# Altium footprint library SecureBot.PcbLib: 71 footprints (part 5 of 5)
Each footprint in its own frame and in the unit in brackets; x right, y up, seen from the top. Pads: shape width x height; smd on the part's side, far side on the other; paste and mask are expansions set on the pad; w line width, h text height; cw(c..) or ccw(c..) is an arc to the next point about the centre after c.
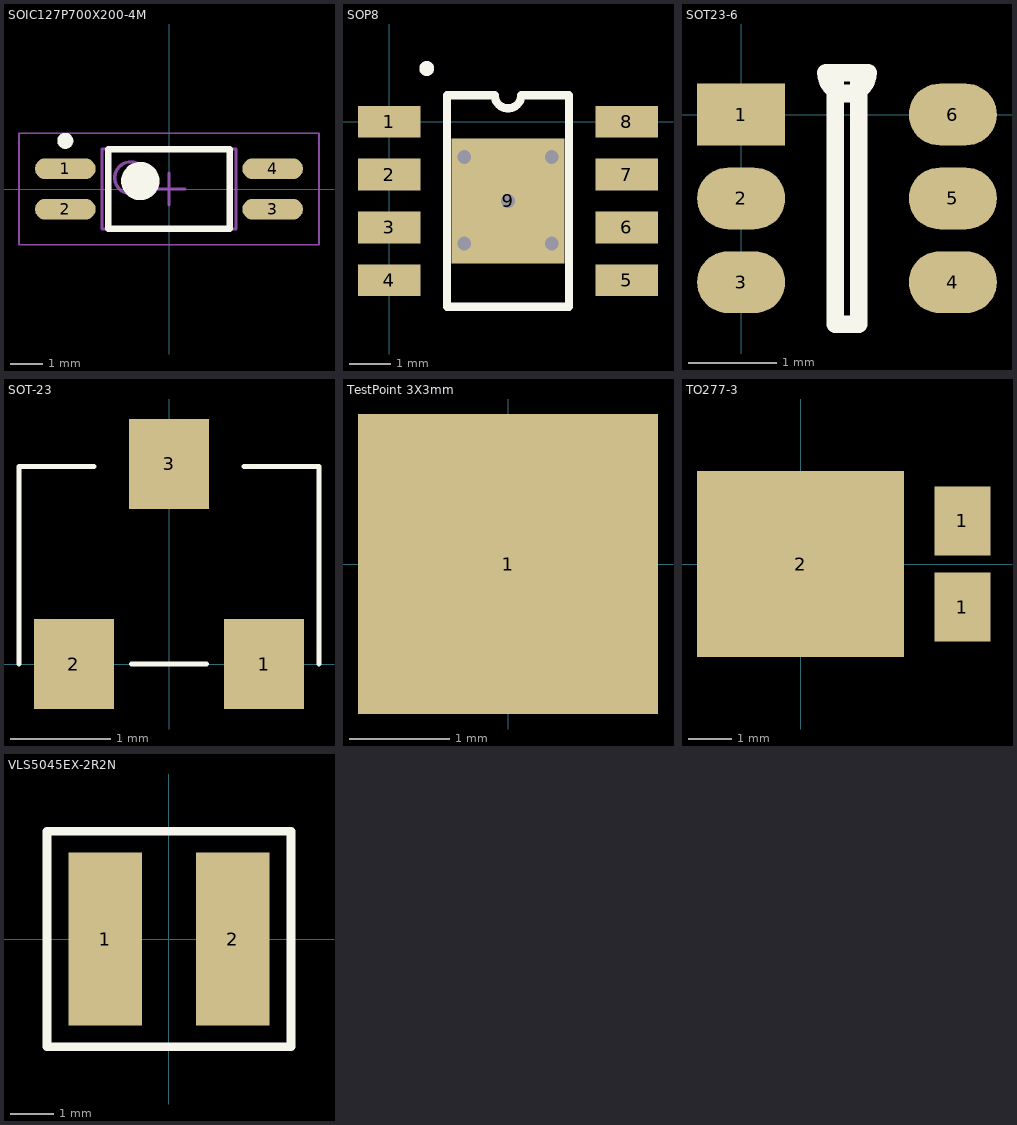
[diagram p4: the footprints below, top view; thin cyan lines are the x and y axes]

## SOIC127P700X200-4M [mm] "SOIC, 4-Leads, Body 2,70x4,40mm, Pitch 1,27mm, IPC Low Density"
height 2
pads (4):
  oval 1.9x0.65 smd: 1(-3.25,0.635) 2(-3.25,-0.635) 3(3.25,-0.635) 4(3.25,0.635)
Top Overlay:
  circle w0.6: c-0.9,0.25 r0.3
  circle w0.25: c-3.25,1.51 r0.125
  lines w0.2: -1.9,-1.25 1.9,-1.25 1.9,1.25 -1.9,1.25 -1.9,-1.25
Mechanical 13:
  circle w0.1: c-1.2,0.35 r0.5
  lines w0.1: -2.1,-1.25 2.1,-1.25 2.1,1.25 -2.1,1.25 -2.1,-1.25
Mechanical 15:
  lines w0.05: -4.7,-1.75 4.7,-1.75 4.7,1.75 -4.7,1.75 -4.7,-1.75
  lines w0.1: -0.5,0 0.5,0 ; 0,-0.5 0,0.5
3D body "SOIC127P700X200-4M.step": height 2, standoff 0, extent -3.5,-1.25 3.5,1.25

## SOP8 [mm]
pads (9):
  rect 1.5x0.76 smd: 1(0,0) 2(0,-1.27) 3(0,-2.54) 4(0,-3.81) 5(5.7,-3.81) 6(5.7,-2.54) 7(5.7,-1.27) 8(5.7,0)
  rect 2.7x3 smd: 9(2.85,-1.905)
via 2.85,-1.905 diameter 0.6 hole 0.33
via 1.8,-0.85 diameter 0.6 hole 0.33
via 3.9,-0.85 diameter 0.6 hole 0.33
via 3.9,-2.925 diameter 0.6 hole 0.33
via 1.8,-2.925 diameter 0.6 hole 0.33
Top Overlay:
  circle w0.254: c0.9,1.275 r0.05
  lines w0.102: 1.385,-4.445 4.315,-4.445
  lines w0.2: 1.385,-4.445 1.385,0.635 2.532,0.635 ccw(c2.85,0.635) 3.167,0.635 4.315,0.635 4.315,-4.445 1.385,-4.445

## SOT23-6 [mm]
pads (6):
  rect 1x0.7 smd: 1(0,0)
  oval 1x0.7 smd: 2(0,-0.95) 3(0,-1.9) 4(2.4,-1.9) 5(2.4,-0.95) 6(2.4,0)
Top Overlay:
  lines w0.2: 0.962,0.475 ccw(c1.2,0.475) 1.438,0.475 1.065,0.475 1.065,-2.375 1.335,-2.375 1.335,0.475 0.962,0.475

## SOT-23 [mm]
pads (3):
  rect 0.8x0.9 smd: 1(0.95,0) 2(-0.95,0) 3(0,2)
Top Overlay:
  lines w0.05: -1.5,0 -1.5,1.975 -0.75,1.975 ; -0.375,0 0,0 0.375,0 ; 0.75,1.975 1.5,1.975 1.5,0

## TestPoint 3X3mm [mm]
pads (1):
  rect 3x3 smd: 1(0,0)

## TO277-3 [mm]
pads (3):
  rect 1.3x1.6 smd: 1(3.75,-1) 1(3.75,1)
  rect 4.8x4.3 smd: 2(0,0)

## VLS5045EX-2R2N [mm]
pads (2):
  rect 1.7x4 smd: 1(-1.475,0) 2(1.475,0)
Top Overlay:
  lines w0.2: -2.825,-2.5 2.825,-2.5 2.825,2.5 -2.825,2.5 -2.825,0 -2.825,-2.5